# EAGLE library part DMG-AMP (library Game Boy)
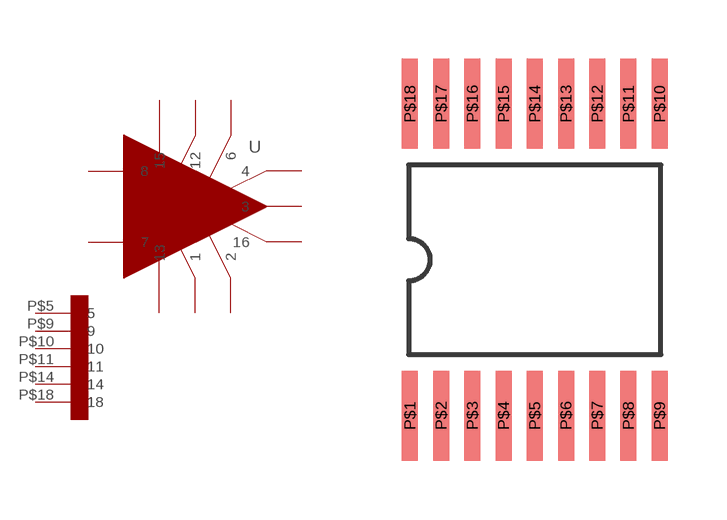
[diagram p5: symbol with the pads of DMG-AMP; footprint DMG-AMP]

Designator prefix -

## DMG-AMP  [DMG-AMP]
P$1  1
P$2  2
P$3  3
P$4  4
P$5  5
P$6  6
P$7  7
P$8  8
P$9  9
P$10  10
P$11  11
P$12  12
P$13  13
P$14  14
P$15  15
P$16  16
P$18  18

## Footprint DMG-AMP (pad centres in mm)
smd 0.406 x 2.286: P$1 -3.175,-3.969; P$2 -2.381,-3.969; P$3 -1.587,-3.969; P$4 -0.794,-3.969; P$5 0,-3.969; P$6 0.794,-3.969; P$7 1.587,-3.969; P$8 2.381,-3.969; P$9 3.175,-3.969; P$10 3.175,3.969; P$11 2.381,3.969; P$12 1.587,3.969; P$13 0.794,3.969; P$14 0,3.969; P$15 -0.794,3.969; P$16 -1.587,3.969; P$17 -2.381,3.969; P$18 -3.175,3.969